# EAGLE library part DAC:DAC082S085(8-BIT,SER,DUAL) (library QuantumOptics)
Dual 8-bit DAC, serial, NatSemi ADC082S085. http://www.national.com/ds/DA/DAC082S085.pdf
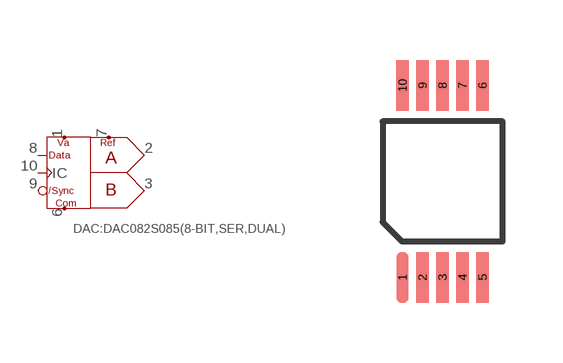
[diagram p121: symbol with the pads of MSOP10; footprint MSOP10]

Designator prefix IC

## DAC:DAC082S085(8-BIT,SER,DUAL)-MSOP-10  [MSOP10]
1  VDD
2  OUT-A  out
3  OUT-B  out
6  COM
7  VREF  in
8  DIN  in
9  /SYNC  in
10  CLK  in

## Footprint MSOP10 (pad centres in mm)
MSOP-10, JEDEC MO-187AB. Sameas Maxim's µsop-10 and TI's VSSOP DGA (S-PDSO-G10).
smd 0.305 x 1.27: 1 -1,-2.4; 2 -0.5,-2.4; 3 0,-2.4; 4 0.5,-2.4; 5 1,-2.4; 6 1,2.4; 7 0.5,2.4; 8 0,2.4; 9 -0.5,2.4; 10 -1,2.4